# Altium schematic symbol library C0402C152J5GACTU.SchLib: 1 symbol
Pins are listed as number, name and electrical type; pins without a type are passive.

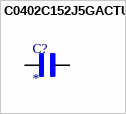
[diagram p0: symbol C0402C152J5GACTU]

## C0402C152J5GACTU
designator C?
CAPACITOR, 1.5NF NPO 50V 0402; Capacitor Application:General Purpose; Dielectric Characteristic:C0G / NP0; Capacitance:1500pF; Capacitance Tolerance:Â± 5%; Voltage Rating:50V; Capacitor Case Style:0402; Capacitor Mounting:SMD; Operating Temperature Range:-55Â°C to +125Â°C; SVHC:No SVHC (20-Jun-2011); External Depth:0.50mm; External Length / Height:1.0mm; External Width:0.5mm; No. of Pins:2; Package / Case:0402; Series:High Cap; Temperature Coefficient:0ppm/Â°C Â± 30ppm/Â°C; Terminal Type:Surface Mount (SMD, SMT); Termination Type:SMD; MF: KEMET; MP: C0402C152J5GACTU; SnapEDA_Link: https://www.snapeda.com/parts/C0402C152J5GACTU/KEMET/view-part/?ref=snap; Package: 0402 KEMET; Value: *; Check_prices: https://www.snapeda.com/parts/C0402C152J5GACTU/KEMET/view-part/?ref=eda
footprint CAPC1005X55N
pins: 1, 2